# EAGLE library part MX-5-PIN-SKYLOONG-KNOB (library ts_keyboards)
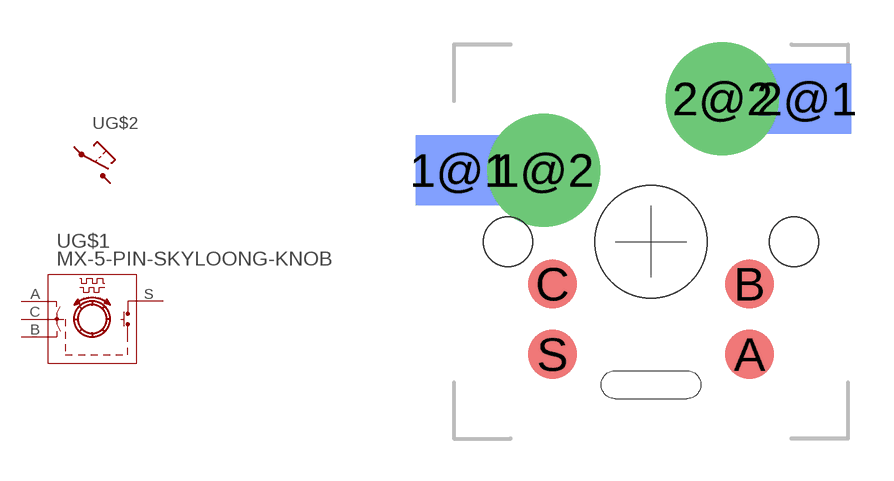
[diagram p8: symbol with the pads of MX-5-PIN-SKYLOONG-KNOB; footprint MX-5-PIN-SKYLOONG-KNOB]

Designator prefix -; gates G$1=SKYLOONG-ENC-PUSH G$2=SPST_MX

## MX-5-PIN-SKYLOONG-KNOB  [MX-5-PIN-SKYLOONG-KNOB]
1@1  G$2:P  pas
1@2  G$2:P  pas
2@1  G$2:S  pas
2@2  G$2:S  pas
A  G$1:A  pas
B  G$1:B  pas
C  G$1:C  pas
S  G$1:S  pas

## Footprint MX-5-PIN-SKYLOONG-KNOB (pad centres in mm)
smd 3.15 x 2.5 bottom: 1@1 -6.785,2.54; 2@1 5.542,5.08
drill 3 pad 3.75: 1@2 -3.81,2.54; 2@2 2.54,5.08
smd 1.75 x 1.75: A 3.5,-4; B 3.5,-1.5; C -3.5,-1.5; S -3.5,-4
hole 3.988 at 0,0
hole 1.75 at -5.08,0
hole 1.75 at 5.08,0